# Altium footprint library LG290P.PcbLib: 1 footprints
Each footprint in its own frame and in the unit in brackets; x right, y up, seen from the top. Pads: shape width x height; smd on the part's side, far side on the other; paste and mask are expansions set on the pad; w line width, h text height; cw(c..) or ccw(c..) is an arc to the next point about the centre after c.
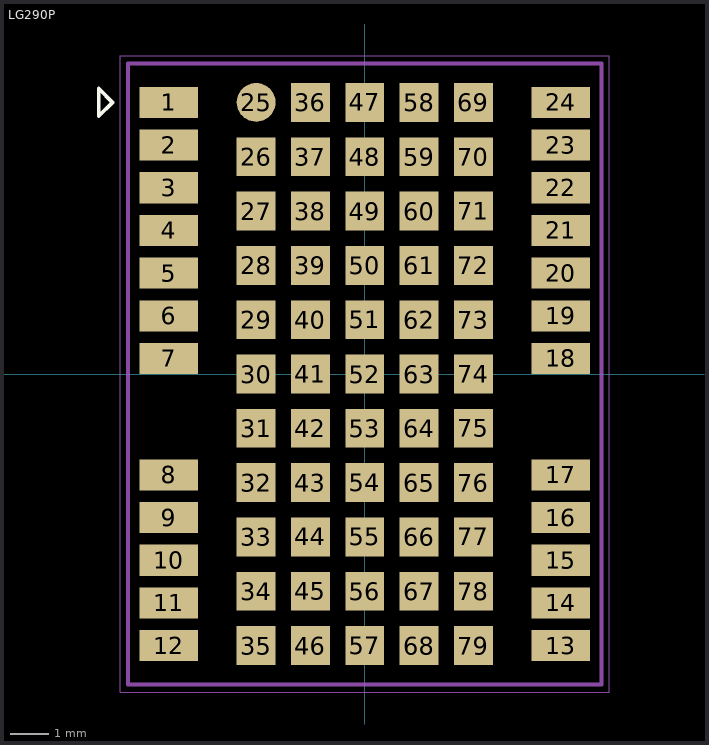
[diagram p0: the footprint, top view; thin cyan lines are the x and y axes]

## LG290P [mm] "GPS ALL BANDS L1/L2/L5/L-BAND"
height 2.6
pads (79):
  rect 1.5x0.8 smd mask+0.05: 1(-5.05,7) 2(-5.05,5.9) 3(-5.05,4.8) 4(-5.05,3.7) 5(-5.05,2.6) 6(-5.05,1.5) 7(-5.05,0.4) 8(-5.05,-2.6) 9(-5.05,-3.7) 10(-5.05,-4.8) 11(-5.05,-5.9) 12(-5.05,-7) 13(5.05,-7) 14(5.05,-5.9) 15(5.05,-4.8) 16(5.05,-3.7) 17(5.05,-2.6) 18(5.05,0.4) 19(5.05,1.5) 20(5.05,2.6) 21(5.05,3.7) 22(5.05,4.8) 23(5.05,5.9) 24(5.05,7)
  round 1 smd mask+0.05: 25(-2.8,7)
  rect 1x1 smd mask+0.05: 26(-2.8,5.6) 27(-2.8,4.2) 28(-2.8,2.8) 29(-2.8,1.4) 30(-2.8,0) 31(-2.8,-1.4) 32(-2.8,-2.8) 33(-2.8,-4.2) 34(-2.8,-5.6) 35(-2.8,-7) 36(-1.4,7) 37(-1.4,5.6) 38(-1.4,4.2) 39(-1.4,2.8) 40(-1.4,1.4) 41(-1.4,0) 42(-1.4,-1.4) 43(-1.4,-2.8) 44(-1.4,-4.2) 45(-1.4,-5.6) 46(-1.4,-7) 47(0,7) 48(0,5.6) 49(0,4.2) 50(0,2.8) 51(0,1.4) 52(0,0) 53(0,-1.4) 54(0,-2.8) 55(0,-4.2) 56(0,-5.6) 57(0,-7) 58(1.4,7) 59(1.4,5.6) 60(1.4,4.2) 61(1.4,2.8) 62(1.4,1.4) 63(1.4,0) 64(1.4,-1.4) 65(1.4,-2.8) 66(1.4,-4.2) 67(1.4,-5.6) 68(1.4,-7) 69(2.8,7) 70(2.8,5.6) 71(2.8,4.2) 72(2.8,2.8) 73(2.8,1.4) 74(2.8,0) 75(2.8,-1.4) 76(2.8,-2.8) 77(2.8,-4.2) 78(2.8,-5.6) 79(2.8,-7)
Top Overlay:
  lines w0.1: -6.853,6.646 -6.5,7 -6.853,7.354 -6.853,6.646
Mechanical 5:
  lines w0.01: -6.3,-8.2 6.3,-8.2 6.3,8.2 -6.3,8.2 -6.3,-8.2
Mechanical 7:
  lines w0.1: -6.1,-8 6.1,-8 6.1,8 -6.1,8 -6.1,-8
3D body: height 2.8, standoff 0, extent -6.1,-8 6.1,8